# Altium integrated library Linear Technology Power Management uModule Regulators.IntLib: 166 symbols (part 41 of 67)
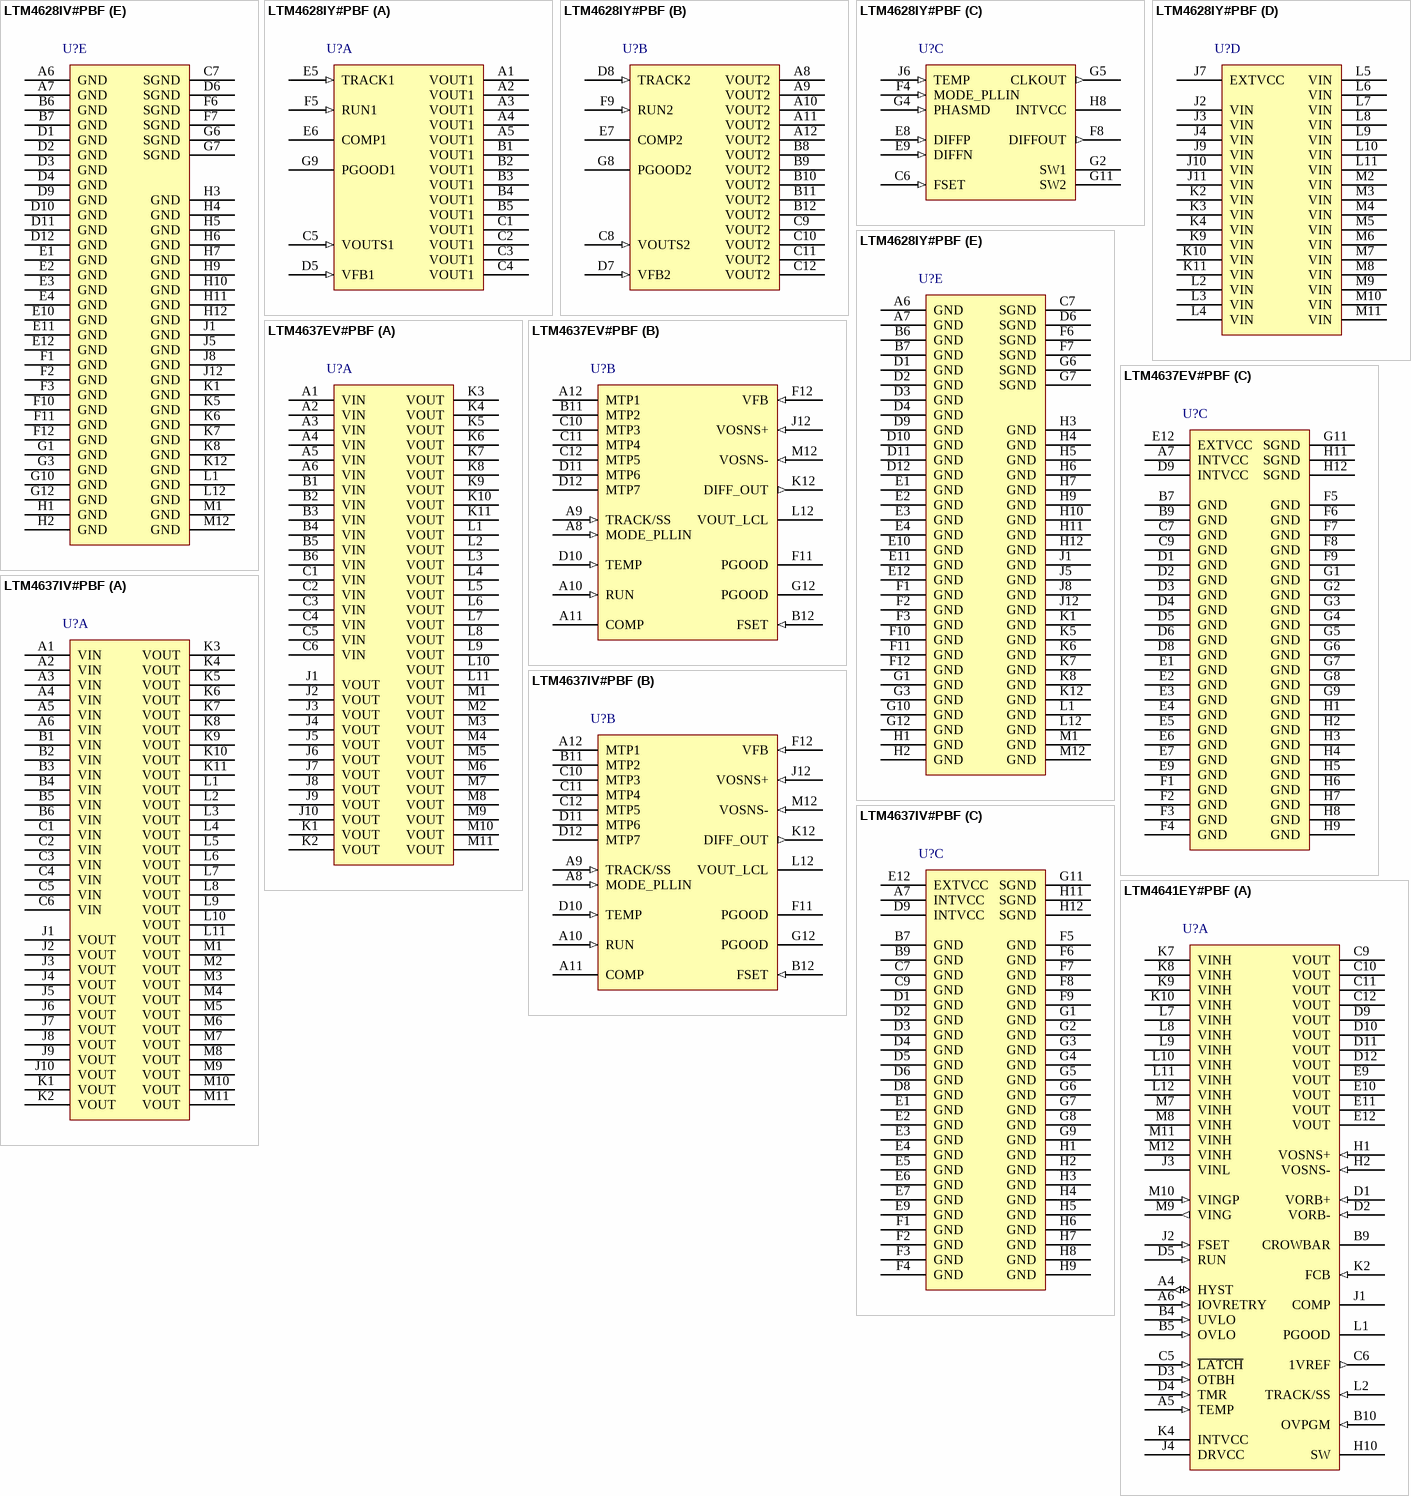
[diagram p67: symbols LTM4628IV#PBF to LTM4641EY#PBF]

## LTM4628IY#PBF
designator U?
Dual 8 A or Single 16 A DC/DC uModule Regulator, 144-pin BGA, -40 to 125 degC, Pb-Free, Tray; Manufacturer: Linear Technology; PartNumber: LTM4628IY#PBF; Extended Temp: E, I; Frequency Adjust Range: 250kHz - 780kHz; Frequency Sync Range: 400kHz - 780kHz; Frequency(kHz): 780; Ishutdown(uA): 60; Isupply(mA): 5; Number of Outputs: 1 or 2; Output Current(A): 8 or 16; Switch Current(A): 15 or 30; Synchronous: yes; Topology: Buck; Vin Max(V): 26.5; Vin Min(V): 4.5; Vout Max(V): 5.5; Vout Min(V): 0.6; DatasheetVersion: Rev. D; PackageVersion: Rev. A, 01/2013; PackageReference: BGA-144; PackageDescription: 144-Ball BGA, Body 15 x 15 mm, Pitch 1.27 mm; Supplier 1: Digi-Key; Supplier Part Number 1: LTM4628IY#PBF-ND; Supplier 2: Newark; Supplier Part Number 2: 44W6850; Packing: Tray; RoHS: TRUE; Tracking: yes; Mounting Technology: Surface Mount; Code_JEDEC: MS-028; ComponentLink1Description: Manufacturer URL; ComponentLink1URL: http://www.linear.com/; ComponentLink2Description: Datasheet; ComponentLink2URL: http://cds.linear.com/docs/en/datasheet/4628fd.pdf; ComponentLink3Description: Package Specification; ComponentLink3URL: http://cds.linear.com/docs/en/packaging/05081921_A_bga144.pdf
footprint LT-BGA-144-05-08-1921 (BGA, 144-Balls, Body 15x15mm, Pitch 1.27mm)
part A pins: A1 VOUT1 (power) "Power Output Pins. Apply output load between these pins and GND pins. Recommend placing output decoupling capacitance directly between these pins and GND pins.", A2 VOUT1 (power) "Power Output Pins. Apply output load between these pins and GND pins. Recommend placing output decoupling capacitance directly between these pins and GND pins.", A3 VOUT1 (power) "Power Output Pins. Apply output load between these pins and GND pins. Recommend placing output decoupling capacitance directly between these pins and GND pins.", A4 VOUT1 (power) "Power Output Pins. Apply output load between these pins and GND pins. Recommend placing output decoupling capacitance directly between these pins and GND pins.", A5 VOUT1 (power) "Power Output Pins. Apply output load between these pins and GND pins. Recommend placing output decoupling capacitance directly between these pins and GND pins.", B1 VOUT1 (power) "Power Output Pins. Apply output load between these pins and GND pins. Recommend placing output decoupling capacitance directly between these pins and GND pins.", B2 VOUT1 (power) "Power Output Pins. Apply output load between these pins and GND pins. Recommend placing output decoupling capacitance directly between these pins and GND pins.", B3 VOUT1 (power) "Power Output Pins. Apply output load between these pins and GND pins. Recommend placing output decoupling capacitance directly between these pins and GND pins.", B4 VOUT1 (power) "Power Output Pins. Apply output load between these pins and GND pins. Recommend placing output decoupling capacitance directly between these pins and GND pins.", B5 VOUT1 (power) "Power Output Pins. Apply output load between these pins and GND pins. Recommend placing output decoupling capacitance directly between these pins and GND pins.", C1 VOUT1 (power) "Power Output Pins. Apply output load between these pins and GND pins. Recommend placing output decoupling capacitance directly between these pins and GND pins.", C2 VOUT1 (power) "Power Output Pins. Apply output load between these pins and GND pins. Recommend placing output decoupling capacitance directly between these pins and GND pins.", C3 VOUT1 (power) "Power Output Pins. Apply output load between these pins and GND pins. Recommend placing output decoupling capacitance directly between these pins and GND pins.", C4 VOUT1 (power) "Power Output Pins. Apply output load between these pins and GND pins. Recommend placing output decoupling capacitance directly between these pins and GND pins.", C5 VOUTS1 (in) "This pin is connected to the top of the internal top feedback resistor for each output. The pin can be directly connected to its specific output, or connected to DIFFOUT when the remote sense amplifier is used. In (See Datasheet)", D5 VFB1 (in) "The Negative Input of the Error Amplifier for Each Channel. Internally, this pin is connected to VOUTS1 or VOUTS2 with a 60.4kohm precision resistor. Different output voltages can be programmed with an additional resistor (See Datasheet)", E5 TRACK1 (in) "Output Voltage Tracking Pin and Soft-Start Inputs. Each channel has a 1.3uA pull-up current source. When one channel is configured to be master of the two channels, then a capacitor from this pin to ground will set a (See Datasheet)", E6 COMP1 "Current control threshold and error amplifier compensation point for each channel. The current comparator threshold increases with this control voltage. Tie the COMP pins together for parallel operation. The device is (See Datasheet)", F5 RUN1 (in) "Run Control Pin. A voltage above 1.25V will turn on each channel in the module. A voltage below 1.25V on the RUN pin will turn off the related channel. Each RUN pin has a 1uA pull-up current, once the RUN pin reaches 1.2V an (See Datasheet)", G9 PGOOD1 (oc) "Output Voltage Power Good Indicator."
part B pins: A8 VOUT2 (power) "Power Output Pins. Apply output load between these pins and GND pins. Recommend placing output decoupling capacitance directly between these pins and GND pins.", A9 VOUT2 (power) "Power Output Pins. Apply output load between these pins and GND pins. Recommend placing output decoupling capacitance directly between these pins and GND pins.", A10 VOUT2 (power) "Power Output Pins. Apply output load between these pins and GND pins. Recommend placing output decoupling capacitance directly between these pins and GND pins.", A11 VOUT2 (power) "Power Output Pins. Apply output load between these pins and GND pins. Recommend placing output decoupling capacitance directly between these pins and GND pins.", A12 VOUT2 (power) "Power Output Pins. Apply output load between these pins and GND pins. Recommend placing output decoupling capacitance directly between these pins and GND pins.", B8 VOUT2 (power) "Power Output Pins. Apply output load between these pins and GND pins. Recommend placing output decoupling capacitance directly between these pins and GND pins.", B9 VOUT2 (power) "Power Output Pins. Apply output load between these pins and GND pins. Recommend placing output decoupling capacitance directly between these pins and GND pins.", B10 VOUT2 (power) "Power Output Pins. Apply output load between these pins and GND pins. Recommend placing output decoupling capacitance directly between these pins and GND pins.", B11 VOUT2 (power) "Power Output Pins. Apply output load between these pins and GND pins. Recommend placing output decoupling capacitance directly between these pins and GND pins.", B12 VOUT2 (power) "Power Output Pins. Apply output load between these pins and GND pins. Recommend placing output decoupling capacitance directly between these pins and GND pins.", C8 VOUTS2 (in) "This pin is connected to the top of the internal top feedback resistor for each output. The pin can be directly connected to its specific output, or connected to DIFFOUT when the remote sense amplifier is used. In (See Datasheet)", C9 VOUT2 (power) "Power Output Pins. Apply output load between these pins and GND pins. Recommend placing output decoupling capacitance directly between these pins and GND pins.", C10 VOUT2 (power) "Power Output Pins. Apply output load between these pins and GND pins. Recommend placing output decoupling capacitance directly between these pins and GND pins.", C11 VOUT2 (power) "Power Output Pins. Apply output load between these pins and GND pins. Recommend placing output decoupling capacitance directly between these pins and GND pins.", C12 VOUT2 (power) "Power Output Pins. Apply output load between these pins and GND pins. Recommend placing output decoupling capacitance directly between these pins and GND pins.", D7 VFB2 (in) "The Negative Input of the Error Amplifier for Each Channel. Internally, this pin is connected to VOUTS1 or VOUTS2 with a 60.4kohm precision resistor. Different output voltages can be programmed with an additional resistor (See Datasheet)", D8 TRACK2 (in) "Output Voltage Tracking Pin and Soft-Start Inputs. Each channel has a 1.3uA pull-up current source. When one channel is configured to be master of the two channels, then a capacitor from this pin to ground will set a (See Datasheet)", E7 COMP2 "Current control threshold and error amplifier compensation point for each channel. The current comparator threshold increases with this control voltage. Tie the COMP pins together for parallel operation. The device is (See Datasheet)", F9 RUN2 (in) "Run Control Pin. A voltage above 1.25V will turn on each channel in the module. A voltage below 1.25V on the RUN pin will turn off the related channel. Each RUN pin has a 1uA pull-up current, once the RUN pin reaches 1.2V an (See Datasheet)", G8 PGOOD2 (oc) "Output Voltage Power Good Indicator."
part C pins: C6 FSET (in) "Frequency Set Pin. A 10uA current is sourced from this pin. A resistor from this pin to ground sets a voltage that in turn programs the operating frequency. Alternatively, this pin can be driven with a DC voltage that can (See Datasheet)", E8 DIFFP (in) "Positive input of the remote sense amplifier. This pin is connected to the remote sense point of the output voltage. See the Applications Information section.", E9 DIFFN (in) "Negative input of the remote sense amplifier. This pin is connected to the remote sense point of the output GND. See the Applications Information section.", F4 MODE_PLLIN (in) "Force Continuous Mode, Burst Mode Operation, or Pulse-Skipping Mode Selection Pin and External Synchronization Input to Phase Detector Pin. Connect this pin to SGND to force both channels into force continuous mode of (See Datasheet)", F8 DIFFOUT (out) "Internal Remote Sense Amplifier Output. Connect this pin to VOUTS1 or VOUTS2 depending on which output is using remote sense. In parallel operation connect one of the VOUTS pin to DIFFOUT for remote sensing.", G2 SW1 "Switching node of each channel that is used for testing purposes. Also an R-C snubber network can be applied to reduce or eliminate switch node ringing, or otherwise leave floating. See the Applications Information section.", G4 PHASMD (in) "Connect this pin to SGND, INTVCC, or floating this pin to select the phase of CLKOUT to 60 degrees, 120 degrees, and 90 degrees respectively.", G5 CLKOUT (out) "Clock output with phase control using the PHASMD pin to enable multiphase operation between devices. See the Applications Information section.", G11 SW2 "Switching node of each channel that is used for testing purposes. Also an R-C snubber network can be applied to reduce or eliminate switch node ringing, or otherwise leave floating. See the Applications Information section.", H8 INTVCC (power) "Internal 5V Regulator Output. The control circuits and internal gate drivers are powered from this voltage. Decouple this pin to PGND with a 4.7uF low ESR tantalum or ceramic. INTVCC is activated when either RUN1 or RUN2 is (See Datasheet)", J6 TEMP (in) "Onboard Temperature Diode for Monitoring the VBE Junction Voltage Change with Temperature. See the Applications Information section."
part D pins: J2 VIN (power) "Power Input Pins. Apply input voltage between these pins and GND pins. Recommend placing input decoupling capacitance directly between VIN pins and GND pins.", J3 VIN (power) "Power Input Pins. Apply input voltage between these pins and GND pins. Recommend placing input decoupling capacitance directly between VIN pins and GND pins.", J4 VIN (power) "Power Input Pins. Apply input voltage between these pins and GND pins. Recommend placing input decoupling capacitance directly between VIN pins and GND pins.", J7 EXTVCC (power) "External power input that is enabled through a switch to INTVCC whenever EXTVCC is greater than 4.7V. Do not exceed 6V on this input, and connect this pin to VIN when operating VIN on 5V. An efficiency increase will occur (See Datasheet)", J9 VIN (power) "Power Input Pins. Apply input voltage between these pins and GND pins. Recommend placing input decoupling capacitance directly between VIN pins and GND pins.", J10 VIN (power) "Power Input Pins. Apply input voltage between these pins and GND pins. Recommend placing input decoupling capacitance directly between VIN pins and GND pins.", J11 VIN (power) "Power Input Pins. Apply input voltage between these pins and GND pins. Recommend placing input decoupling capacitance directly between VIN pins and GND pins.", K2 VIN (power) "Power Input Pins. Apply input voltage between these pins and GND pins. Recommend placing input decoupling capacitance directly between VIN pins and GND pins.", K3 VIN (power) "Power Input Pins. Apply input voltage between these pins and GND pins. Recommend placing input decoupling capacitance directly between VIN pins and GND pins.", K4 VIN (power) "Power Input Pins. Apply input voltage between these pins and GND pins. Recommend placing input decoupling capacitance directly between VIN pins and GND pins.", K9 VIN (power) "Power Input Pins. Apply input voltage between these pins and GND pins. Recommend placing input decoupling capacitance directly between VIN pins and GND pins.", K10 VIN (power) "Power Input Pins. Apply input voltage between these pins and GND pins. Recommend placing input decoupling capacitance directly between VIN pins and GND pins.", K11 VIN (power) "Power Input Pins. Apply input voltage between these pins and GND pins. Recommend placing input decoupling capacitance directly between VIN pins and GND pins.", L2 VIN (power) "Power Input Pins. Apply input voltage between these pins and GND pins. Recommend placing input decoupling capacitance directly between VIN pins and GND pins.", L3 VIN (power) "Power Input Pins. Apply input voltage between these pins and GND pins. Recommend placing input decoupling capacitance directly between VIN pins and GND pins.", L4 VIN (power) "Power Input Pins. Apply input voltage between these pins and GND pins. Recommend placing input decoupling capacitance directly between VIN pins and GND pins.", L5 VIN (power) "Power Input Pins. Apply input voltage between these pins and GND pins. Recommend placing input decoupling capacitance directly between VIN pins and GND pins.", L6 VIN (power) "Power Input Pins. Apply input voltage between these pins and GND pins. Recommend placing input decoupling capacitance directly between VIN pins and GND pins.", L7 VIN (power) "Power Input Pins. Apply input voltage between these pins and GND pins. Recommend placing input decoupling capacitance directly between VIN pins and GND pins.", L8 VIN (power) "Power Input Pins. Apply input voltage between these pins and GND pins. Recommend placing input decoupling capacitance directly between VIN pins and GND pins.", L9 VIN (power) "Power Input Pins. Apply input voltage between these pins and GND pins. Recommend placing input decoupling capacitance directly between VIN pins and GND pins.", L10 VIN (power) "Power Input Pins. Apply input voltage between these pins and GND pins. Recommend placing input decoupling capacitance directly between VIN pins and GND pins.", L11 VIN (power) "Power Input Pins. Apply input voltage between these pins and GND pins. Recommend placing input decoupling capacitance directly between VIN pins and GND pins.", M2 VIN (power) "Power Input Pins. Apply input voltage between these pins and GND pins. Recommend placing input decoupling capacitance directly between VIN pins and GND pins.", M3 VIN (power) "Power Input Pins. Apply input voltage between these pins and GND pins. Recommend placing input decoupling capacitance directly between VIN pins and GND pins.", M4 VIN (power) "Power Input Pins. Apply input voltage between these pins and GND pins. Recommend placing input decoupling capacitance directly between VIN pins and GND pins.", M5 VIN (power) "Power Input Pins. Apply input voltage between these pins and GND pins. Recommend placing input decoupling capacitance directly between VIN pins and GND pins.", M6 VIN (power) "Power Input Pins. Apply input voltage between these pins and GND pins. Recommend placing input decoupling capacitance directly between VIN pins and GND pins.", M7 VIN (power) "Power Input Pins. Apply input voltage between these pins and GND pins. Recommend placing input decoupling capacitance directly between VIN pins and GND pins.", M8 VIN (power) "Power Input Pins. Apply input voltage between these pins and GND pins. Recommend placing input decoupling capacitance directly between VIN pins and GND pins.", M9 VIN (power) "Power Input Pins. Apply input voltage between these pins and GND pins. Recommend placing input decoupling capacitance directly between VIN pins and GND pins.", M10 VIN (power) "Power Input Pins. Apply input voltage between these pins and GND pins. Recommend placing input decoupling capacitance directly between VIN pins and GND pins.", M11 VIN (power) "Power Input Pins. Apply input voltage between these pins and GND pins. Recommend placing input decoupling capacitance directly between VIN pins and GND pins."
part E pins: A6 GND (power) "Power Ground Pins for Both Input and Output Returns.", A7 GND (power) "Power Ground Pins for Both Input and Output Returns.", B6 GND (power) "Power Ground Pins for Both Input and Output Returns.", B7 GND (power) "Power Ground Pins for Both Input and Output Returns.", C7 SGND (power) "Signal Ground Pin. Return ground path for all analog and low power circuitry. Tie a single connection to the output capacitor GND in the application.", D1 GND (power) "Power Ground Pins for Both Input and Output Returns.", D2 GND (power) "Power Ground Pins for Both Input and Output Returns.", D3 GND (power) "Power Ground Pins for Both Input and Output Returns.", D4 GND (power) "Power Ground Pins for Both Input and Output Returns.", D6 SGND (power) "Signal Ground Pin. Return ground path for all analog and low power circuitry. Tie a single connection to the output capacitor GND in the application.", D9 GND (power) "Power Ground Pins for Both Input and Output Returns.", D10 GND (power) "Power Ground Pins for Both Input and Output Returns.", D11 GND (power) "Power Ground Pins for Both Input and Output Returns.", D12 GND (power) "Power Ground Pins for Both Input and Output Returns.", E1 GND (power) "Power Ground Pins for Both Input and Output Returns.", E2 GND (power) "Power Ground Pins for Both Input and Output Returns.", E3 GND (power) "Power Ground Pins for Both Input and Output Returns.", E4 GND (power) "Power Ground Pins for Both Input and Output Returns.", E10 GND (power) "Power Ground Pins for Both Input and Output Returns.", E11 GND (power) "Power Ground Pins for Both Input and Output Returns.", E12 GND (power) "Power Ground Pins for Both Input and Output Returns.", F1 GND (power) "Power Ground Pins for Both Input and Output Returns.", F2 GND (power) "Power Ground Pins for Both Input and Output Returns.", F3 GND (power) "Power Ground Pins for Both Input and Output Returns.", F6 SGND (power) "Signal Ground Pin. Return ground path for all analog and low power circuitry. Tie a single connection to the output capacitor GND in the application.", F7 SGND (power) "Signal Ground Pin. Return ground path for all analog and low power circuitry. Tie a single connection to the output capacitor GND in the application.", F10 GND (power) "Power Ground Pins for Both Input and Output Returns.", F11 GND (power) "Power Ground Pins for Both Input and Output Returns.", F12 GND (power) "Power Ground Pins for Both Input and Output Returns.", G1 GND (power) "Power Ground Pins for Both Input and Output Returns.", G3 GND (power) "Power Ground Pins for Both Input and Output Returns.", G6 SGND (power) "Signal Ground Pin. Return ground path for all analog and low power circuitry. Tie a single connection to the output capacitor GND in the application.", G7 SGND (power) "Signal Ground Pin. Return ground path for all analog and low power circuitry. Tie a single connection to the output capacitor GND in the application.", G10 GND (power) "Power Ground Pins for Both Input and Output Returns.", G12 GND (power) "Power Ground Pins for Both Input and Output Returns.", H1 GND (power) "Power Ground Pins for Both Input and Output Returns.", H2 GND (power) "Power Ground Pins for Both Input and Output Returns.", H3 GND (power) "Power Ground Pins for Both Input and Output Returns.", H4 GND (power) "Power Ground Pins for Both Input and Output Returns.", H5 GND (power) "Power Ground Pins for Both Input and Output Returns.", H6 GND (power) "Power Ground Pins for Both Input and Output Returns.", H7 GND (power) "Power Ground Pins for Both Input and Output Returns.", H9 GND (power) "Power Ground Pins for Both Input and Output Returns.", H10 GND (power) "Power Ground Pins for Both Input and Output Returns.", H11 GND (power) "Power Ground Pins for Both Input and Output Returns.", H12 GND (power) "Power Ground Pins for Both Input and Output Returns.", J1 GND (power) "Power Ground Pins for Both Input and Output Returns.", J5 GND (power) "Power Ground Pins for Both Input and Output Returns.", J8 GND (power) "Power Ground Pins for Both Input and Output Returns.", J12 GND (power) "Power Ground Pins for Both Input and Output Returns.", K1 GND (power) "Power Ground Pins for Both Input and Output Returns.", K5 GND (power) "Power Ground Pins for Both Input and Output Returns.", K6 GND (power) "Power Ground Pins for Both Input and Output Returns.", K7 GND (power) "Power Ground Pins for Both Input and Output Returns.", K8 GND (power) "Power Ground Pins for Both Input and Output Returns.", K12 GND (power) "Power Ground Pins for Both Input and Output Returns.", L1 GND (power) "Power Ground Pins for Both Input and Output Returns.", L12 GND (power) "Power Ground Pins for Both Input and Output Returns.", M1 GND (power) "Power Ground Pins for Both Input and Output Returns.", M12 GND (power) "Power Ground Pins for Both Input and Output Returns."

## LTM4637EV#PBF
designator U?
20 A DC/DC uModule Step-Down Regulator, 133-pin LGA, -40 to 125 degC, Pb-Free, Tray; Manufacturer: Linear Technology; PartNumber: LTM4637EV#PBF; Extended Temp: E, I; Frequency Adjust Range: 250kHz - 800kHz; Frequency(kHz): 770; Ishutdown(uA): 40; Isupply(mA): 17; Number of Outputs: 1; Output Current(A): 20; Switch Current(A): 25; Synchronous: yes; Topology: Buck; Vin Min(V): 4.5; Vout Max(V): 5.5; Vout Min(V): 0.6; PackageVersion: Rev. Ø, 12/2012; PackageReference: LGA-133; PackageDescription: 133-Pin LGA, Body 15 x 15 mm, Pitch 1.27 mm; Supplier 1: Digi-Key; Supplier Part Number 1: LTM4637EV#PBF-ND; Supplier 2: Newark; Supplier Part Number 2: 94W8422; Frequency Sync Range: 250kHz - 800kHz; Packing: Tray; RoHS: TRUE; Tracking: yes; Vin Max(V): 20; Mounting Technology: Surface Mount; Code_JEDEC: MO-222; ComponentLink1Description: Manufacturer URL; ComponentLink1URL: http://www.linear.com/; ComponentLink2Description: Datasheet; ComponentLink2URL: http://cds.linear.com/docs/en/datasheet/4637f.pdf; ComponentLink3Description: Package Specification; ComponentLink3URL: http://cds.linear.com/docs/en/packaging/05081906_0_lga133.pdf
footprint LT-LGA-133-05-08-1906_V (LGA, 133-Leads, Body 15x15mm, Pitch 1.27mm)
part A pins: A1 VIN (power) "Power Input Pins. Apply input voltage between these and GND pins. Recommend placing input decoupling capacitance directly between VIN and GND pins.", A2 VIN (power) "Power Input Pins. Apply input voltage between these and GND pins. Recommend placing input decoupling capacitance directly between VIN and GND pins.", A3 VIN (power) "Power Input Pins. Apply input voltage between these and GND pins. Recommend placing input decoupling capacitance directly between VIN and GND pins.", A4 VIN (power) "Power Input Pins. Apply input voltage between these and GND pins. Recommend placing input decoupling capacitance directly between VIN and GND pins.", A5 VIN (power) "Power Input Pins. Apply input voltage between these and GND pins. Recommend placing input decoupling capacitance directly between VIN and GND pins.", A6 VIN (power) "Power Input Pins. Apply input voltage between these and GND pins. Recommend placing input decoupling capacitance directly between VIN and GND pins.", B1 VIN (power) "Power Input Pins. Apply input voltage between these and GND pins. Recommend placing input decoupling capacitance directly between VIN and GND pins.", B2 VIN (power) "Power Input Pins. Apply input voltage between these and GND pins. Recommend placing input decoupling capacitance directly between VIN and GND pins.", B3 VIN (power) "Power Input Pins. Apply input voltage between these and GND pins. Recommend placing input decoupling capacitance directly between VIN and GND pins.", B4 VIN (power) "Power Input Pins. Apply input voltage between these and GND pins. Recommend placing input decoupling capacitance directly between VIN and GND pins.", B5 VIN (power) "Power Input Pins. Apply input voltage between these and GND pins. Recommend placing input decoupling capacitance directly between VIN and GND pins.", B6 VIN (power) "Power Input Pins. Apply input voltage between these and GND pins. Recommend placing input decoupling capacitance directly between VIN and GND pins.", C1 VIN (power) "Power Input Pins. Apply input voltage between these and GND pins. Recommend placing input decoupling capacitance directly between VIN and GND pins.", C2 VIN (power) "Power Input Pins. Apply input voltage between these and GND pins. Recommend placing input decoupling capacitance directly between VIN and GND pins.", C3 VIN (power) "Power Input Pins. Apply input voltage between these and GND pins. Recommend placing input decoupling capacitance directly between VIN and GND pins.", C4 VIN (power) "Power Input Pins. Apply input voltage between these and GND pins. Recommend placing input decoupling capacitance directly between VIN and GND pins.", C5 VIN (power) "Power Input Pins. Apply input voltage between these and GND pins. Recommend placing input decoupling capacitance directly between VIN and GND pins.", C6 VIN (power) "Power Input Pins. Apply input voltage between these and GND pins. Recommend placing input decoupling capacitance directly between VIN and GND pins.", J1 VOUT (power) "Power Output Pins. Apply output load between these and GND pins. Recommend placing output decoupling capacitance between these pins and GND pins. Review Table 5.", J2 VOUT (power) "Power Output Pins. Apply output load between these and GND pins. Recommend placing output decoupling capacitance between these pins and GND pins. Review Table 5.", J3 VOUT (power) "Power Output Pins. Apply output load between these and GND pins. Recommend placing output decoupling capacitance between these pins and GND pins. Review Table 5.", J4 VOUT (power) "Power Output Pins. Apply output load between these and GND pins. Recommend placing output decoupling capacitance between these pins and GND pins. Review Table 5.", J5 VOUT (power) "Power Output Pins. Apply output load between these and GND pins. Recommend placing output decoupling capacitance between these pins and GND pins. Review Table 5.", J6 VOUT (power) "Power Output Pins. Apply output load between these and GND pins. Recommend placing output decoupling capacitance between these pins and GND pins. Review Table 5.", J7 VOUT (power) "Power Output Pins. Apply output load between these and GND pins. Recommend placing output decoupling capacitance between these pins and GND pins. Review Table 5.", J8 VOUT (power) "Power Output Pins. Apply output load between these and GND pins. Recommend placing output decoupling capacitance between these pins and GND pins. Review Table 5.", J9 VOUT (power) "Power Output Pins. Apply output load between these and GND pins. Recommend placing output decoupling capacitance between these pins and GND pins. Review Table 5.", J10 VOUT (power) "Power Output Pins. Apply output load between these and GND pins. Recommend placing output decoupling capacitance between these pins and GND pins. Review Table 5.", K1 VOUT (power) "Power Output Pins. Apply output load between these and GND pins. Recommend placing output decoupling capacitance between these pins and GND pins. Review Table 5.", K2 VOUT (power) "Power Output Pins. Apply output load between these and GND pins. Recommend placing output decoupling capacitance between these pins and GND pins. Review Table 5.", K3 VOUT (power) "Power Output Pins. Apply output load between these and GND pins. Recommend placing output decoupling capacitance between these pins and GND pins. Review Table 5.", K4 VOUT (power) "Power Output Pins. Apply output load between these and GND pins. Recommend placing output decoupling capacitance between these pins and GND pins. Review Table 5.", K5 VOUT (power) "Power Output Pins. Apply output load between these and GND pins. Recommend placing output decoupling capacitance between these pins and GND pins. Review Table 5.", K6 VOUT (power) "Power Output Pins. Apply output load between these and GND pins. Recommend placing output decoupling capacitance between these pins and GND pins. Review Table 5.", K7 VOUT (power) "Power Output Pins. Apply output load between these and GND pins. Recommend placing output decoupling capacitance between these pins and GND pins. Review Table 5.", K8 VOUT (power) "Power Output Pins. Apply output load between these and GND pins. Recommend placing output decoupling capacitance between these pins and GND pins. Review Table 5.", K9 VOUT (power) "Power Output Pins. Apply output load between these and GND pins. Recommend placing output decoupling capacitance between these pins and GND pins. Review Table 5.", K10 VOUT (power) "Power Output Pins. Apply output load between these and GND pins. Recommend placing output decoupling capacitance between these pins and GND pins. Review Table 5.", K11 VOUT (power) "Power Output Pins. Apply output load between these and GND pins. Recommend placing output decoupling capacitance between these pins and GND pins. Review Table 5.", L1 VOUT (power) "Power Output Pins. Apply output load between these and GND pins. Recommend placing output decoupling capacitance between these pins and GND pins. Review Table 5.", L2 VOUT (power) "Power Output Pins. Apply output load between these and GND pins. Recommend placing output decoupling capacitance between these pins and GND pins. Review Table 5.", L3 VOUT (power) "Power Output Pins. Apply output load between these and GND pins. Recommend placing output decoupling capacitance between these pins and GND pins. Review Table 5.", L4 VOUT (power) "Power Output Pins. Apply output load between these and GND pins. Recommend placing output decoupling capacitance between these pins and GND pins. Review Table 5.", L5 VOUT (power) "Power Output Pins. Apply output load between these and GND pins. Recommend placing output decoupling capacitance between these pins and GND pins. Review Table 5.", L6 VOUT (power) "Power Output Pins. Apply output load between these and GND pins. Recommend placing output decoupling capacitance between these pins and GND pins. Review Table 5.", L7 VOUT (power) "Power Output Pins. Apply output load between these and GND pins. Recommend placing output decoupling capacitance between these pins and GND pins. Review Table 5.", L8 VOUT (power) "Power Output Pins. Apply output load between these and GND pins. Recommend placing output decoupling capacitance between these pins and GND pins. Review Table 5.", L9 VOUT (power) "Power Output Pins. Apply output load between these and GND pins. Recommend placing output decoupling capacitance between these pins and GND pins. Review Table 5.", L10 VOUT (power) "Power Output Pins. Apply output load between these and GND pins. Recommend placing output decoupling capacitance between these pins and GND pins. Review Table 5.", L11 VOUT (power) "Power Output Pins. Apply output load between these and GND pins. Recommend placing output decoupling capacitance between these pins and GND pins. Review Table 5.", M1 VOUT (power) "Power Output Pins. Apply output load between these and GND pins. Recommend placing output decoupling capacitance between these pins and GND pins. Review Table 5.", M2 VOUT (power) "Power Output Pins. Apply output load between these and GND pins. Recommend placing output decoupling capacitance between these pins and GND pins. Review Table 5.", M3 VOUT (power) "Power Output Pins. Apply output load between these and GND pins. Recommend placing output decoupling capacitance between these pins and GND pins. Review Table 5.", M4 VOUT (power) "Power Output Pins. Apply output load between these and GND pins. Recommend placing output decoupling capacitance between these pins and GND pins. Review Table 5.", M5 VOUT (power) "Power Output Pins. Apply output load between these and GND pins. Recommend placing output decoupling capacitance between these pins and GND pins. Review Table 5.", M6 VOUT (power) "Power Output Pins. Apply output load between these and GND pins. Recommend placing output decoupling capacitance between these pins and GND pins. Review Table 5.", M7 VOUT (power) "Power Output Pins. Apply output load between these and GND pins. Recommend placing output decoupling capacitance between these pins and GND pins. Review Table 5.", M8 VOUT (power) "Power Output Pins. Apply output load between these and GND pins. Recommend placing output decoupling capacitance between these pins and GND pins. Review Table 5.", M9 VOUT (power) "Power Output Pins. Apply output load between these and GND pins. Recommend placing output decoupling capacitance between these pins and GND pins. Review Table 5.", M10 VOUT (power) "Power Output Pins. Apply output load between these and GND pins. Recommend placing output decoupling capacitance between these pins and GND pins. Review Table 5.", M11 VOUT (power) "Power Output Pins. Apply output load between these and GND pins. Recommend placing output decoupling capacitance between these pins and GND pins. Review Table 5."
part B pins: A8 MODE_PLLIN (in) "Forced Continuous Mode, Burst Mode Operation, or Pulse-Skipping Mode Selection Pin and External Synchronization Input to Phase Detector Pin. Connect this pin to INTVCC to enable pulse-skipping mode. Connect to ground to (See Datasheet)", A9 TRACK/SS (in) "Output Voltage Tracking Pin and Soft- Start Inputs. The pin has a 1.2uA pull-up current source. A capacitor from this pin to ground will set a soft-start ramp rate. In tracking, the regulator output can be tracked to a (See Datasheet)", A10 RUN (in) "Run Control Pin. A voltage above 1.4V will turn on the module. A 5.1V Zener diode to ground is internal to the module for limiting the voltage on the RUN pin to 5V, and allowing a pull-up resistor to VIN for enabling the (See Datasheet)", A11 COMP "Current Control Threshold and Error Amplifier Compensation Point. The current comparator threshold increases with this control voltage. Tie all COMP pins together for parallel operation. The device is internally compensated.", A12 MTP1 "Extra mounting pads used for increased solder integrity strength. Leave floating.", B11 MTP2 "Extra mounting pads used for increased solder integrity strength. Leave floating.", B12 FSET (in) "A resistor can be applied from this pin to ground to set the operating frequency, or a DC voltage can be applied to set the frequency. See the Applications Information section", C10 MTP3 "Extra mounting pads used for increased solder integrity strength. Leave floating.", C11 MTP4 "Extra mounting pads used for increased solder integrity strength. Leave floating.", C12 MTP5 "Extra mounting pads used for increased solder integrity strength. Leave floating.", D10 TEMP (in) "Temperature Monitor. See Applications Information section.", D11 MTP6 "Extra mounting pads used for increased solder integrity strength. Leave floating.", D12 MTP7 "Extra mounting pads used for increased solder integrity strength. Leave floating.", F11 PGOOD (oc) "Output Voltage Power Good Indicator. Open-drain logic output is pulled to ground when the output voltage exceeds a +/-10% regulation window. Both pins are tied together internally.", F12 VFB (in) "The Negative Input of the Error Amplifier. Internally, this pin is connected to VOUT_LCL with a 60.4k precision resistor. Different output voltages can be programmed with an additional resistor between VFB and ground pins. (See Datasheet)", G12 PGOOD (oc) "Output Voltage Power Good Indicator. Open-drain logic output is pulled to ground when the output voltage exceeds a +/-10% regulation window. Both pins are tied together internally.", J12 VOSNS+ (in) "(+) Input to the Remote Sense Amplifier. This pin connects to the output remote sense point. The remote sense amplifier can be used for VOUT =< 3.3V. Connect to ground when not used.", K12 DIFF_OUT (out) "Output of the Remote Sense Amplifier. This pin connects to the VOUT_LCL pin for remote sense applications. Otherwise float when not used. The remote sense amplifier can be used for VOUT =< 3.3V.", L12 VOUT_LCL "This pin connects to VOUT through a 1M resistor, and to VFB with a 60.4k resistor. The remote sense amplifier output DIFF_OUT is connected to VOUT_LCL, and drives the 60.4k top feedback resistor in remote sensing (See Datasheet)", M12 VOSNS- (in) "(-) Input to the Remote Sense Amplifier. This pin connects to the ground remote sense point. The remote sense amplifier can be used for VOUT =< 3.3V. Connect to ground when not used."
part C pins: A7 INTVCC (power) "Internal 5V LDO for Driving the Control Circuitry and the Power MOSFET Drivers. Both pins are internally connected. The 5V LDO has a 100mA current limit. INTVCC is controlled and enabled when RUN is activated high.", B7 GND (power) "Power Ground Pins for Both Input and Output.", B9 GND (power) "Power Ground Pins for Both Input and Output.", C7 GND (power) "Power Ground Pins for Both Input and Output.", C9 GND (power) "Power Ground Pins for Both Input and Output.", D1 GND (power) "Power Ground Pins for Both Input and Output.", D2 GND (power) "Power Ground Pins for Both Input and Output.", D3 GND (power) "Power Ground Pins for Both Input and Output.", D4 GND (power) "Power Ground Pins for Both Input and Output.", D5 GND (power) "Power Ground Pins for Both Input and Output.", D6 GND (power) "Power Ground Pins for Both Input and Output.", D8 GND (power) "Power Ground Pins for Both Input and Output.", D9 INTVCC (power) "Internal 5V LDO for Driving the Control Circuitry and the Power MOSFET Drivers. Both pins are internally connected. The 5V LDO has a 100mA current limit. INTVCC is controlled and enabled when RUN is activated high.", E1 GND (power) "Power Ground Pins for Both Input and Output.", E2 GND (power) "Power Ground Pins for Both Input and Output.", E3 GND (power) "Power Ground Pins for Both Input and Output.", E4 GND (power) "Power Ground Pins for Both Input and Output.", E5 GND (power) "Power Ground Pins for Both Input and Output.", E6 GND (power) "Power Ground Pins for Both Input and Output.", E7 GND (power) "Power Ground Pins for Both Input and Output.", E9 GND (power) "Power Ground Pins for Both Input and Output.", E12 EXTVCC (power) "External power input to an internal control switch allows an external source greater than 4.7V, but less than 6V to supply IC power and bypass the internal INTVCC LDO. EXTVCC must be less than VIN at all times during (See Datasheet)", F1 GND (power) "Power Ground Pins for Both Input and Output.", F2 GND (power) "Power Ground Pins for Both Input and Output.", F3 GND (power) "Power Ground Pins for Both Input and Output.", F4 GND (power) "Power Ground Pins for Both Input and Output.", F5 GND (power) "Power Ground Pins for Both Input and Output.", F6 GND (power) "Power Ground Pins for Both Input and Output.", F7 GND (power) "Power Ground Pins for Both Input and Output.", F8 GND (power) "Power Ground Pins for Both Input and Output.", F9 GND (power) "Power Ground Pins for Both Input and Output.", G1 GND (power) "Power Ground Pins for Both Input and Output.", G2 GND (power) "Power Ground Pins for Both Input and Output.", G3 GND (power) "Power Ground Pins for Both Input and Output.", G4 GND (power) "Power Ground Pins for Both Input and Output.", G5 GND (power) "Power Ground Pins for Both Input and Output.", G6 GND (power) "Power Ground Pins for Both Input and Output.", G7 GND (power) "Power Ground Pins for Both Input and Output.", G8 GND (power) "Power Ground Pins for Both Input and Output.", G9 GND (power) "Power Ground Pins for Both Input and Output.", G11 SGND (power) "Signal Ground Pin. Return ground path for all analog and low power circuitry. Tie a single connection to the output capacitor GND. See layout guidelines in Figure 21.", H1 GND (power) "Power Ground Pins for Both Input and Output.", H2 GND (power) "Power Ground Pins for Both Input and Output.", H3 GND (power) "Power Ground Pins for Both Input and Output.", H4 GND (power) "Power Ground Pins for Both Input and Output.", H5 GND (power) "Power Ground Pins for Both Input and Output.", H6 GND (power) "Power Ground Pins for Both Input and Output.", H7 GND (power) "Power Ground Pins for Both Input and Output.", H8 GND (power) "Power Ground Pins for Both Input and Output.", H9 GND (power) "Power Ground Pins for Both Input and Output.", H11 SGND (power) "Signal Ground Pin. Return ground path for all analog and low power circuitry. Tie a single connection to the output capacitor GND. See layout guidelines in Figure 21.", H12 SGND (power) "Signal Ground Pin. Return ground path for all analog and low power circuitry. Tie a single connection to the output capacitor GND. See layout guidelines in Figure 21."